# Altium footprint library Cap_Electrolytic_SMD_Pcb.PcbLib: 8 footprints
Each footprint in its own frame and in the unit in brackets; x right, y up, seen from the top. Pads: shape width x height; smd on the part's side, far side on the other; paste and mask are expansions set on the pad; w line width, h text height; cw(c..) or ccw(c..) is an arc to the next point about the centre after c.
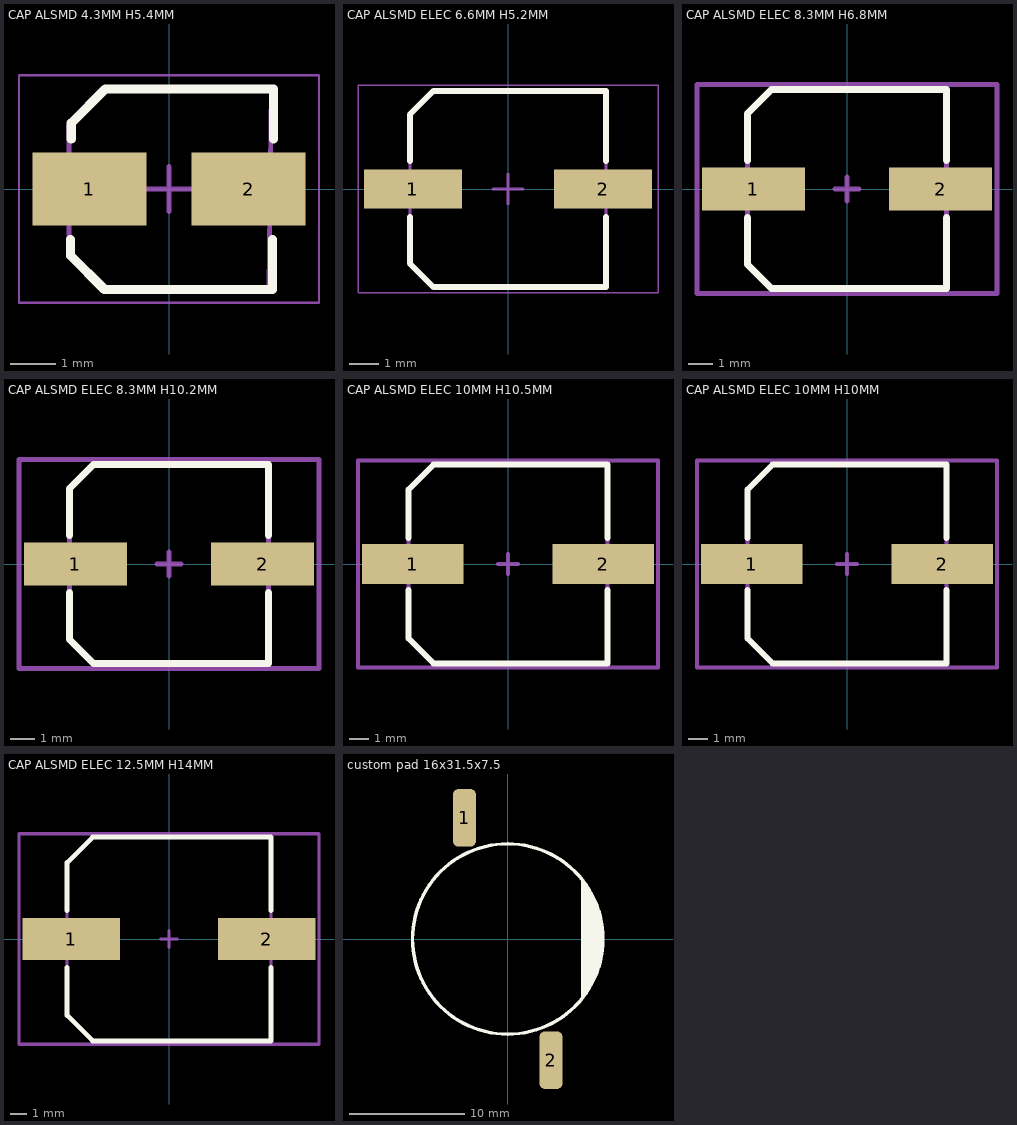
[diagram p0: the footprints below, top view; thin cyan lines are the x and y axes]

## CAP ALSMD 4.3MM H5.4MM [mm] "Aluminum Electrolytic Capacitor, Body 4.30x4.30x5.40mm, IPC Low Density"
height 5.4
pads (2):
  rect 2.5x1.6 smd: 1(-1.75,0) 2(1.75,0)
Top Overlay:
  lines w0.2: -2.17,-1.112 -2.17,-1.462 -1.42,-2.212 2.28,-2.212 2.28,-1.112 ; -2.15,1.1 -2.15,1.45 -1.4,2.2 2.3,2.2 2.3,1.1
Mechanical 13:
  lines w0.1: -2.2,-1.4 -1.4,-2.2 2.2,-2.2 2.25,2.2 -1.4,2.2 -2.2,1.4 -2.2,-1.4
Mechanical 15:
  lines w0.05: -3.3,-2.5 -3.3,2.5 3.3,2.5 3.3,-2.5 -3.3,-2.5
  lines w0.1: -0.5,0 0.5,0 ; 0,-0.5 0,0.5
3D body "CAP ALSMD - 4.3 x 4.3 x 5.4.step": height 5.4, standoff 0, extent -2.3,-2.2 2.3,2.2

## CAP ALSMD ELEC 6.6MM H5.2MM [mm] "Aluminum SMD Electrolytic Capacitor, 6.60mm Land Size, 6.30mm Diameter, 5.20mm Height, 8.00mm Maximum Leads Span"
height 0.65
pads (2):
  rect 3.3x1.3 smd: 1(-3.2,0) 2(3.2,0)
Top Overlay:
  lines w0.2: -3.3,-0.95 -3.3,-2.512 -2.512,-3.3 3.3,-3.3 3.3,-0.95 ; -3.3,0.95 -3.3,2.512 -2.512,3.3 3.3,3.3 3.3,0.95
Mechanical 13:
  lines w0.1: -3.3,-2.512 -2.512,-3.3 3.3,-3.3 3.3,3.3 -2.512,3.3 -3.3,2.512 -3.3,-2.512
Mechanical 15:
  lines w0.05: -5.05,-3.5 5.05,-3.5 5.05,3.5 -5.05,3.5 -5.05,-3.5
  lines w0.1: -0.5,0 0.5,0 ; 0,-0.5 0,0.5
3D body ".STEP": height 5.2, standoff 0, extent -4,-3.3 4,3.3

## CAP ALSMD ELEC 8.3MM H6.8MM [mm] "Aluminum SMD Electrolytic Capacitor, 8.30mm Land Size, 8.00mm Diameter, 6.80mm Height, 10.00mm Maximum Leads Span"
height 0.9
pads (2):
  rect 4.3x1.8 smd: 1(-3.9,0) 2(3.9,0)
Top Overlay:
  lines w0.3: -4.15,-1.2 -4.15,-3.15 -3.15,-4.15 4.15,-4.15 4.15,-1.2 ; -4.15,1.2 -4.15,3.15 -3.15,4.15 4.15,4.15 4.15,1.2
Mechanical 13:
  lines w0.2: -4.15,-3.15 -3.15,-4.15 4.15,-4.15 4.15,4.15 -3.15,4.15 -4.15,3.15 -4.15,-3.15
Mechanical 15:
  lines w0.2: -0.5,0 0.5,0 ; 0,-0.5 0,0.5 ; -6.25,-4.35 6.25,-4.35 6.25,4.35 -6.25,4.35 -6.25,-4.35
3D body ".STEP": height 6.8, standoff 0, extent -5,-4.15 5,4.15

## CAP ALSMD ELEC 8.3MM H10.2MM [mm] "Aluminum SMD Electrolytic Capacitor, 8.30mm Land Size, 8.00mm Diameter, 10.20mm Height, 10.00mm Maximum Leads Span"
height 0.9
pads (2):
  rect 4.3x1.8 smd: 1(-3.9,0) 2(3.9,0)
Top Overlay:
  lines w0.3: -4.15,-1.2 -4.15,-3.15 -3.15,-4.15 4.15,-4.15 4.15,-1.2 ; -4.15,1.2 -4.15,3.15 -3.15,4.15 4.15,4.15 4.15,1.2
Mechanical 13:
  lines w0.2: -4.15,-3.15 -4.15,3.15 -3.15,4.15 4.15,4.15 4.15,-4.15 -3.15,-4.15 -4.15,-3.15
Mechanical 15:
  lines w0.2: -0.5,0 0.5,0 ; 0,-0.5 0,0.5 ; -6.25,-4.35 -6.25,4.35 6.25,4.35 6.25,-4.35 -6.25,-4.35
3D body ".STEP": height 10.2, standoff 0, extent -5,-4.15 5,4.15

## CAP ALSMD ELEC 10MM H10.5MM [mm] "Aluminum SMD Electrolytic Capacitor, 10.00mm Land Size, 10.00mm Diameter, 10.50mm Height, 12.10mm Maximum Leads Span"
height 1
pads (2):
  rect 5.1x2 smd: 1(-4.8,0) 2(4.8,0)
Top Overlay:
  lines w0.3: -5,-1.3 -5,-3.75 -3.75,-5 5,-5 5,-1.3 ; -5,1.3 -5,3.75 -3.75,5 5,5 5,1.3
Mechanical 13:
  lines w0.2: -5,-3.75 -3.75,-5 5,-5 5,5 -3.75,5 -5,3.75 -5,-3.75
Mechanical 15:
  lines w0.2: -0.5,0 0.5,0 ; 0,-0.5 0,0.5 ; -7.55,-5.2 7.55,-5.2 7.55,5.2 -7.55,5.2 -7.55,-5.2
3D body ".STEP": height 10.5, standoff 0, extent -6.05,-5 6.05,5

## CAP ALSMD ELEC 10MM H10MM [mm] "Aluminum SMD Electrolytic Capacitor, 10.00mm Land Size, 10.00mm Diameter, 10.00mm Height, 12.10mm Maximum Leads Span"
height 1
pads (2):
  rect 5.1x2 smd: 1(-4.8,0) 2(4.8,0)
Top Overlay:
  lines w0.3: -5,-1.3 -5,-3.75 -3.75,-5 5,-5 5,-1.3 ; -5,1.3 -5,3.75 -3.75,5 5,5 5,1.3
Mechanical 13:
  lines w0.2: -5,-3.75 -3.75,-5 5,-5 5,5 -3.75,5 -5,3.75 -5,-3.75
Mechanical 15:
  lines w0.2: -0.5,0 0.5,0 ; 0,-0.5 0,0.5 ; -7.55,-5.2 7.55,-5.2 7.55,5.2 -7.55,5.2 -7.55,-5.2
3D body ".STEP": height 10, standoff 0, extent -6.05,-5 6.05,5

## CAP ALSMD ELEC 12.5MM H14MM [mm] "Aluminum SMD Electrolytic Capacitor, 12.50mm Land Size, 12.50mm Diameter, 14.00mm Height, 14.90mm Maximum Leads Span"
height 1.3
pads (2):
  rect 6x2.6 smd: 1(-6,0) 2(6,0)
Top Overlay:
  lines w0.3: -6.25,-1.75 -6.25,-4.687 -4.687,-6.25 6.25,-6.25 6.25,-1.75 ; -6.25,1.75 -6.25,4.687 -4.687,6.25 6.25,6.25 6.25,1.75
Mechanical 13:
  lines w0.2: -6.25,-4.687 -6.25,4.687 -4.687,6.25 6.25,6.25 6.25,-6.25 -4.687,-6.25 -6.25,-4.687
Mechanical 15:
  lines w0.2: -0.5,0 0.5,0 ; 0,-0.5 0,0.5 ; -9.2,-6.45 -9.2,6.45 9.2,6.45 9.2,-6.45 -9.2,-6.45
3D body ".STEP": height 14, standoff 0, extent -7.45,-6.25 7.45,6.25

## custom pad 16x31.5x7.5 [mm]
pads (2):
  rrect50% 2x5 smd: 1(-3.75,10.5) 2(3.75,-10.5)
Top Overlay:
  circle w0.3: c0,0 r8.25
  region: 6.5,5 6.5,-4.8 7.4,-3.9 7.4,-3.5 7.8,-3.1 7.8,-2.4 8.1,-2.1 8.1,-0.4 8.3,-0.2 8.3,0.5 8.2,0.6 8.2,1.6 7.9,1.9 7.9,2.7 7.5,3.1 7.5,3.6 7,4.1 7,4.4
  lines w0.3: 6.5,-5 6.5,5
3D body "Cap-EL(16x25-7.5).step": height 26.11, standoff -2.79, extent -8.25,-8.242 8.25,8.242